# Altium footprint library PcbLib.PcbLib: 12 footprints
Each footprint in its own frame and in the unit in brackets; x right, y up, seen from the top. Pads: shape width x height; smd on the part's side, far side on the other; paste and mask are expansions set on the pad; w line width, h text height; cw(c..) or ccw(c..) is an arc to the next point about the centre after c.
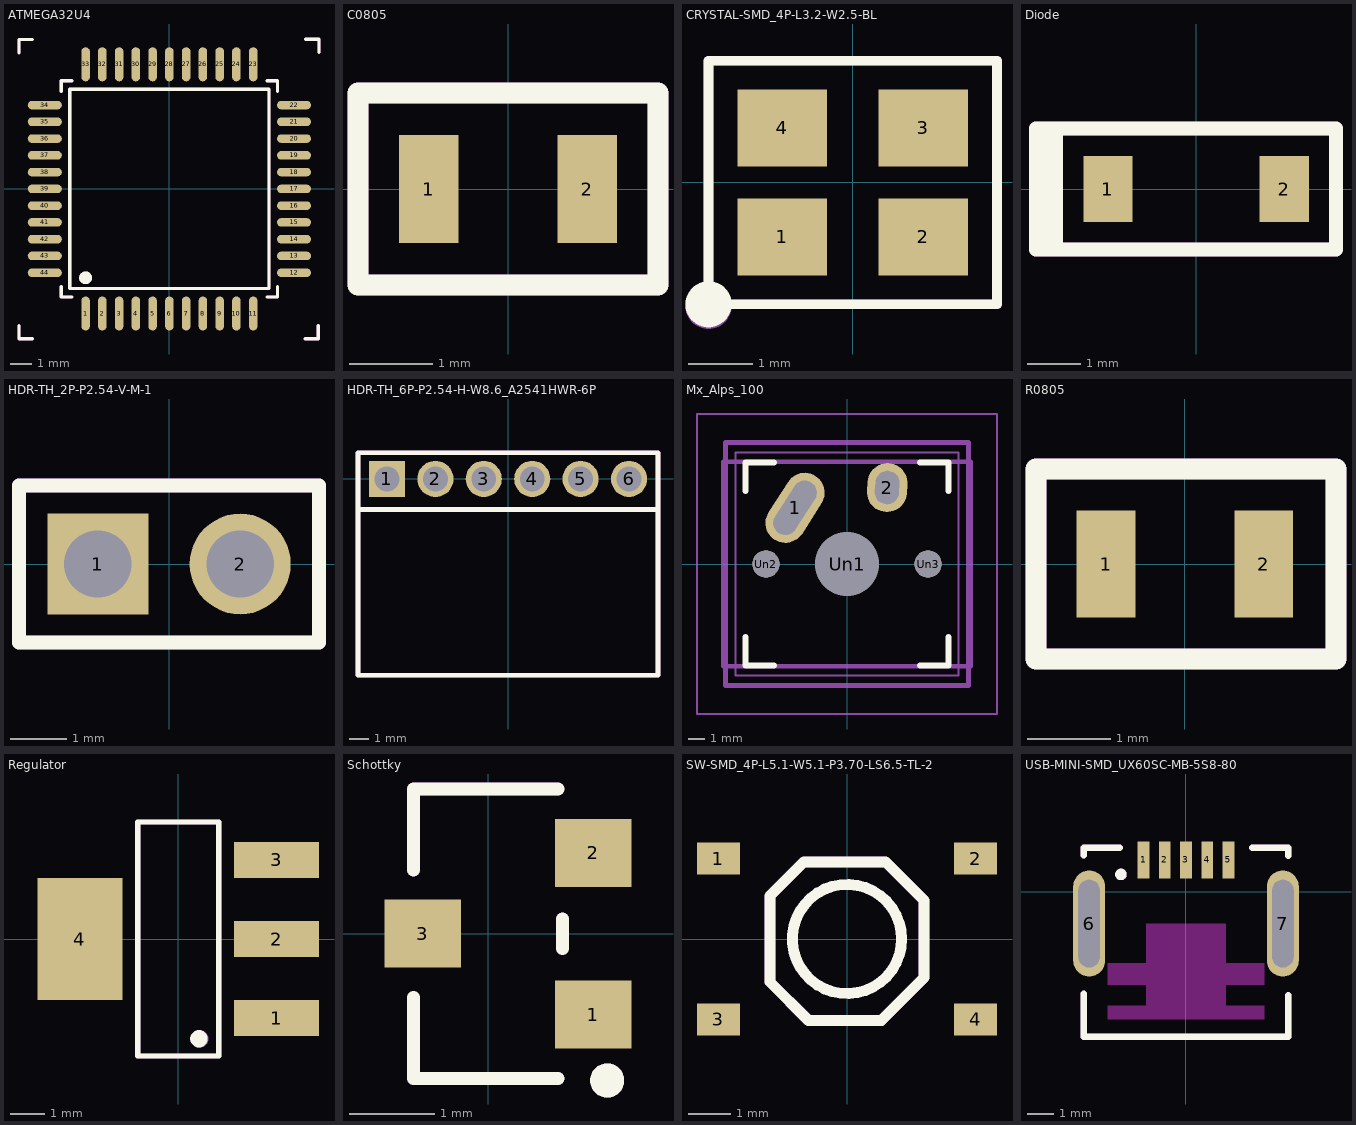
[diagram p0: the footprints below, top view; thin cyan lines are the x and y axes]

## ATMEGA32U4 [mm]
pads (44):
  oval 0.4x1.6 smd mask+0.052: 1(-3.937,-5.851) 2(-3.15,-5.851) 3(-2.362,-5.851) 4(-1.575,-5.851) 5(-0.787,-5.851) 6(0,-5.851) 7(0.787,-5.851) 8(1.575,-5.851) 9(2.362,-5.851) 10(3.15,-5.851) 11(3.937,-5.851) 23(3.937,5.851) 24(3.15,5.851) 25(2.362,5.851) 26(1.575,5.851) 27(0.787,5.851) 28(0,5.851) 29(-0.787,5.851) 30(-1.575,5.851) 31(-2.362,5.851) 32(-3.15,5.851) 33(-3.937,5.851)
  oval 1.6x0.4 smd mask+0.052: 12(5.851,-3.937) 13(5.851,-3.15) 14(5.851,-2.362) 15(5.851,-1.575) 16(5.851,-0.787) 17(5.851,0) 18(5.851,0.787) 19(5.851,1.575) 20(5.851,2.362) 21(5.851,3.15) 22(5.851,3.937) 34(-5.851,3.937) 35(-5.851,3.15) 36(-5.851,2.362) 37(-5.851,1.575) 38(-5.851,0.787) 39(-5.851,0) 40(-5.851,-0.787) 41(-5.851,-1.575) 42(-5.851,-2.362) 43(-5.851,-3.15) 44(-5.851,-3.937)
Top Overlay:
  circle w0.3: c-3.937,-4.175 r0.15
  lines w0.152: -7.062,-6.411 -7.062,-7.036 -6.437,-7.036 ; -7.062,6.389 -7.062,7.014 -6.437,7.014 ; -5.08,-4.58 -5.08,-5.08 -4.58,-5.08 ; -5.08,4.58 -5.08,5.08 -4.58,5.08 ; 4.58,-5.08 5.08,-5.08 5.08,-4.58 ; 4.58,5.08 5.08,5.08 5.08,4.58 ; 6.363,-7.036 6.988,-7.036 6.988,-6.411 ; 6.4,7.025 7.025,7.025 7.025,6.4 ; -4.675,-4.675 -4.675,4.675 4.675,4.675 4.675,-4.675 -4.675,-4.675
Assembly Notes:
  circle w0.3: c-3.937,-4.175 r0.15
  lines w0.152: -7.062,-6.411 -7.062,-7.036 -6.437,-7.036 ; -7.062,6.389 -7.062,7.014 -6.437,7.014 ; -5.08,-4.58 -5.08,-5.08 -4.58,-5.08 ; -5.08,4.58 -5.08,5.08 -4.58,5.08 ; 4.58,-5.08 5.08,-5.08 5.08,-4.58 ; 4.58,5.08 5.08,5.08 5.08,4.58 ; 6.363,-7.036 6.988,-7.036 6.988,-6.411 ; 6.4,7.025 7.025,7.025 7.025,6.4 ; -4.675,-4.675 -4.675,4.675 4.675,4.675 4.675,-4.675 -4.675,-4.675
  text "'.Designator'" at -0.1,0.333 h0.7
3D body "ATMEGA32U4-AUR--3DModel-STEP-56544.STEP": height -0.35, standoff -1.55, extent -6,-6 6,6

## C0805 [mil]
pads (2):
  rect 28x51 smd: 1(-37.5,0) 2(37.5,0)
Top Overlay:
  lines w10: -70.87,-45.28 -70.87,45.28 70.87,45.28 70.87,-45.28 -70.87,-45.28
Assembly Notes:
  lines w10: -70.87,-45.28 -70.87,45.28 70.87,45.28 70.87,-45.28 -70.87,-45.28
  text "'.Designator'" at -3.94,13.12 h27.56
3D body "C0805.step": height 47.24, standoff 0, extent -39.36,-23.61 39.38,23.63

## CRYSTAL-SMD_4P-L3.2-W2.5-BL [mm]
pads (4):
  rect 1.4x1.2 smd: 1(-1.1,-0.85) 2(1.1,-0.85) 3(1.1,0.85) 4(-1.1,0.85)
Top Overlay:
  lines w0.152: -2.25,-1.9 2.25,-1.9 2.25,1.9 -2.25,1.9 -2.25,-1.9
  lines w0.36: -2.074,-1.864 ccw(c-2.25,-1.9) -2.07,-1.9
Assembly Notes:
  lines w0.152: -2.25,-1.9 2.25,-1.9 2.25,1.9 -2.25,1.9 -2.25,-1.9
  lines w0.36: -2.074,-1.889 ccw(c-2.25,-1.925) -2.07,-1.925
  text "'.Designator'" at -0.1,0.333 h0.7

## Diode [mil]
pads (2):
  rect 36x48 smd: 1(-64.5,0) 2(64.5,0)
Top Overlay:
  lines w10: -110.24,-44.29 -102.36,-44.29 ; -110.24,-44.29 -110.24,44.29 ; -110.24,-44.29 -117.13,-44.29 -117.13,44.29 -110.24,44.29 ; -110.24,44.29 -102.36,44.29 ; -102.36,-44.29 102.36,-44.29 102.36,44.29 -102.36,44.29 ; -102.36,-44.29 -102.36,44.29
Assembly Notes:
  lines w10: -110.24,-44.29 -102.36,-44.29 ; -110.24,-44.29 -110.24,44.29 ; -110.24,-44.29 -117.13,-44.29 -117.13,44.29 -110.24,44.29 ; -110.24,44.29 -102.36,44.29 ; -102.36,-44.29 102.36,-44.29 102.36,44.29 -102.36,44.29 ; -102.36,-44.29 -102.36,44.29
  text "'.Designator'" at -3.94,13.12 h27.56
3D body "SOD123_DIO.step": height 32.09, standoff 0, extent -75.79,-26.58 75.79,26.58

## HDR-TH_2P-P2.54-V-M-1 [mm]
pads (2):
  rect 1.8x1.8 hole 1.2: 1(-1.27,0)
  round 1.8 hole 1.2: 2(1.27,0)
Top Overlay:
  lines w0.254: -2.675,-1.4 -2.675,1.4 2.675,1.4 2.675,-1.4 -2.675,-1.4
Assembly Notes:
  lines w0.254: -2.675,-1.4 -2.675,1.4 2.675,1.4 2.675,-1.4 -2.675,-1.4
  text "'.Designator'" at -0.1,0.333 h0.7
3D body "2PIN.step": height 2.5, standoff -8.5, extent -2.54,-1.275 2.54,1.265

## HDR-TH_6P-P2.54-H-W8.6_A2541HWR-6P [mm]
pads (6):
  rect 1.9x1.9 hole 1.3: 1(-6.35,0)
  round 1.9 hole 1.3: 2(-3.81,0) 3(-1.27,0) 4(1.27,0) 5(3.81,0) 6(6.35,0)
Top Overlay:
  lines w0.254: -7.87,-1.54 -7.87,1.37 7.87,1.37 7.87,-1.6 ; -7.87,-10.3 -7.87,-1.6 ; -7.87,-10.3 7.87,-10.3 ; -7.87,-10.3 -7.87,-1.6 ; -7.87,-10.3 7.87,-10.3 ; -7.87,-1.6 7.87,-1.6 ; -7.87,-1.6 7.87,-1.6 ; 7.87,-10.3 7.87,-1.6 ; 7.87,-10.3 7.87,-1.6
Assembly Notes:
  lines w0.254: -7.87,-1.54 -7.87,1.37 7.87,1.37 7.87,-1.6 ; 7.87,-1.6 -7.87,-1.6 -7.87,-10.3 7.87,-10.3 7.87,-1.6
  text "'.Designator'" at -0.1,0.333 h0.7
3D body "H254_90deg_6pin.STEP": height 3.14, standoff -3, extent -7.67,-10.15 7.57,0.201

## Mx_Alps_100 [mm]
pads (5):
  rrect100% 2.5x4.75 hole 3.75 slot 1.5 at 147.5 deg rot 147.5: 1(-3.255,3.52)
  rrect100% 2.5x3.08 hole 2.08 slot 1.5 at 176.1 deg rot 176.1: 2(2.52,4.79)
  round 3.988 hole 3.988: Un1(0,0)
  round 1.702 hole 1.702: Un2(-5.08,0) Un3(5.08,0)
Top Overlay:
  lines w0.381: -6.35,-4.572 -6.35,-6.35 -4.572,-6.35 ; -6.35,4.572 -6.35,6.35 -4.572,6.35 ; 4.572,-6.35 6.35,-6.35 6.35,-4.572 ; 4.572,6.35 6.35,6.35 6.35,4.572
Assembly Notes:
  lines w0.152: -9.398,-9.398 9.398,-9.398 9.398,9.398 -9.398,9.398 -9.398,-9.398 ; -6.985,-6.985 6.985,-6.985 6.985,6.985 -6.985,6.985 -6.985,-6.985
  lines w0.3: -7.75,-6.4 -7.75,6.4 7.75,6.4 7.75,-6.4 -7.75,-6.4 ; -7.62,-7.62 7.62,-7.62 7.62,7.62 -7.62,7.62 -7.62,-7.62
  text "'.Designator'" at -0.1,0.333 h0.7

## R0805 [mil]
pads (2):
  rect 28x51 smd: 1(-37.5,0) 2(37.5,0)
Top Overlay:
  lines w10: -70.87,-45.28 -70.87,45.28 71.85,45.28 71.85,-45.28 -70.87,-45.28
Assembly Notes:
  lines w10: -70.87,-45.28 -70.87,45.28 71.85,45.28 71.85,-45.28 -70.87,-45.28
  text "'.Designator'" at -3.94,13.12 h27.56
3D body "R0805.STEP": height 19.68, standoff 0, extent -39.36,-24.6 39.37,24.61

## Regulator [mm]
pads (4):
  rect 2.465x1.05 smd: 1(2.857,-2.3) 2(2.857,0) 3(2.857,2.3)
  rect 2.465x3.54 smd: 4(-2.857,0)
Top Overlay:
  circle w0.254: c0.6,-2.9 r0.125
  lines w0.152: -1.175,-3.401 1.175,-3.401 1.175,3.401 -1.175,3.401 -1.175,-3.401
Assembly Notes:
  circle w0.254: c0.625,-2.9 r0.125
  lines w0.152: -1.175,-3.401 1.175,-3.401 1.175,3.401 -1.175,3.401 -1.175,-3.401
  text "'.Designator'" at -0.1,0.333 h0.7
3D body "SOT223_AMS1117-50_ADS.step": height -0.4, standoff -2.21, extent -3.5,-3.353 3.5,3.353

## Schottky [mm]
pads (3):
  rect 0.9x0.8 smd: 1(1.235,-0.95) 2(1.235,0.95) 3(-0.765,0)
Top Overlay:
  circle w0.2: c1.4,-1.725 r0.1
  lines w0.152: -0.876,-0.75 -0.875,-1.7 0.825,-1.7 ; -0.876,0.75 -0.875,1.7 0.825,1.7 ; 0.875,-0.175 0.875,0.175
Assembly Notes:
  circle w0.2: c1.4,-1.725 r0.1
  lines w0.152: -0.876,-0.75 -0.875,-1.7 0.825,-1.7 ; -0.876,0.75 -0.875,1.7 0.825,1.7 ; 0.875,-0.175 0.875,0.175
  text "'.Designator'" at 0.1,0.333 h0.7
3D body "SOT-23-3_1P4X3P040_ONS.step": height -0.4, standoff -1.52, extent -1.321,-1.524 1.321,1.524

## SW-SMD_4P-L5.1-W5.1-P3.70-LS6.5-TL-2 [mm]
pads (4):
  rect 1x0.75 smd: 1(-3,1.875) 2(3,1.875) 3(-3,-1.875) 4(3,-1.875)
Top Overlay:
  circle w0.254: c0,0 r1.275
  lines w0.254: -1.801,-0.998 -0.899,-1.9 0.8,-1.9 1.801,-0.899 1.801,0.899 0.899,1.801 -1.001,1.801 -1.801,1.001 -1.801,-0.998
Assembly Notes:
  lines w0.254: -1.801,-0.998 -0.899,-1.9 0.8,-1.9 1.801,-0.899 1.801,0.899 0.899,1.801 -1.001,1.801 -1.801,1.001 -1.801,-0.998
  text "'.Designator'" at -0.1,0.333 h0.7
3D body "Tact Switch SMD 4.5x4.5mm.stp": height -0.4, standoff -4.2, extent -3.75,-2.25 3.75,2.25

## USB-MINI-SMD_UX60SC-MB-5S8-80 [mm]
pads (7):
  rect 0.45x1.4 smd mask+0.042: 1(-1.6,1.2) 2(-0.8,1.2) 3(0,1.2) 4(0.8,1.2) 5(1.6,1.2)
  oval 1.2x4 hole 0.8 slot 3.3 at 90 deg: 6(-3.65,-1.2) 7(3.65,-1.2)
Top Overlay:
  circle w0.254: c-2.45,0.65 r0.09
  lines w0.254: -3.85,-5.463 -3.85,-3.85 ; -3.85,-5.461 3.85,-5.461 3.85,-3.9 ; -3.85,1.375 -3.85,1.651 -2.502,1.651 ; 2.502,1.651 3.85,1.651 3.85,1.35
Keep-Out Layer:
  region: 1.5,-2.7 2.95,-2.7 2.95,-3.5 1.5,-3.5 1.5,-4.3 2.95,-4.3 2.95,-4.8 -2.95,-4.8 -2.95,-4.3 -1.5,-4.3 -1.5,-3.5 -2.95,-3.5 -2.95,-2.7 -1.5,-2.7 -1.5,-1.2 1.5,-1.2
Assembly Notes:
  circle w0.254: c-2.45,0.65 r0.09
  lines w0.254: -3.85,-5.463 -3.85,-3.85 ; -3.85,-5.461 3.85,-5.461 3.85,-3.9 ; -3.85,1.375 -3.85,1.651 -2.502,1.651 ; 2.502,1.651 3.85,1.651 3.85,1.35
  text "'.Designator'" at 0.1,0.333 h0.7
3D body "USB.stp": height 0.35, standoff -4.35, extent -3.875,-5.4 3.825,1.6